# Altium schematic symbol library SYM-IC.SchLib: 136 symbols (part 2 of 7)
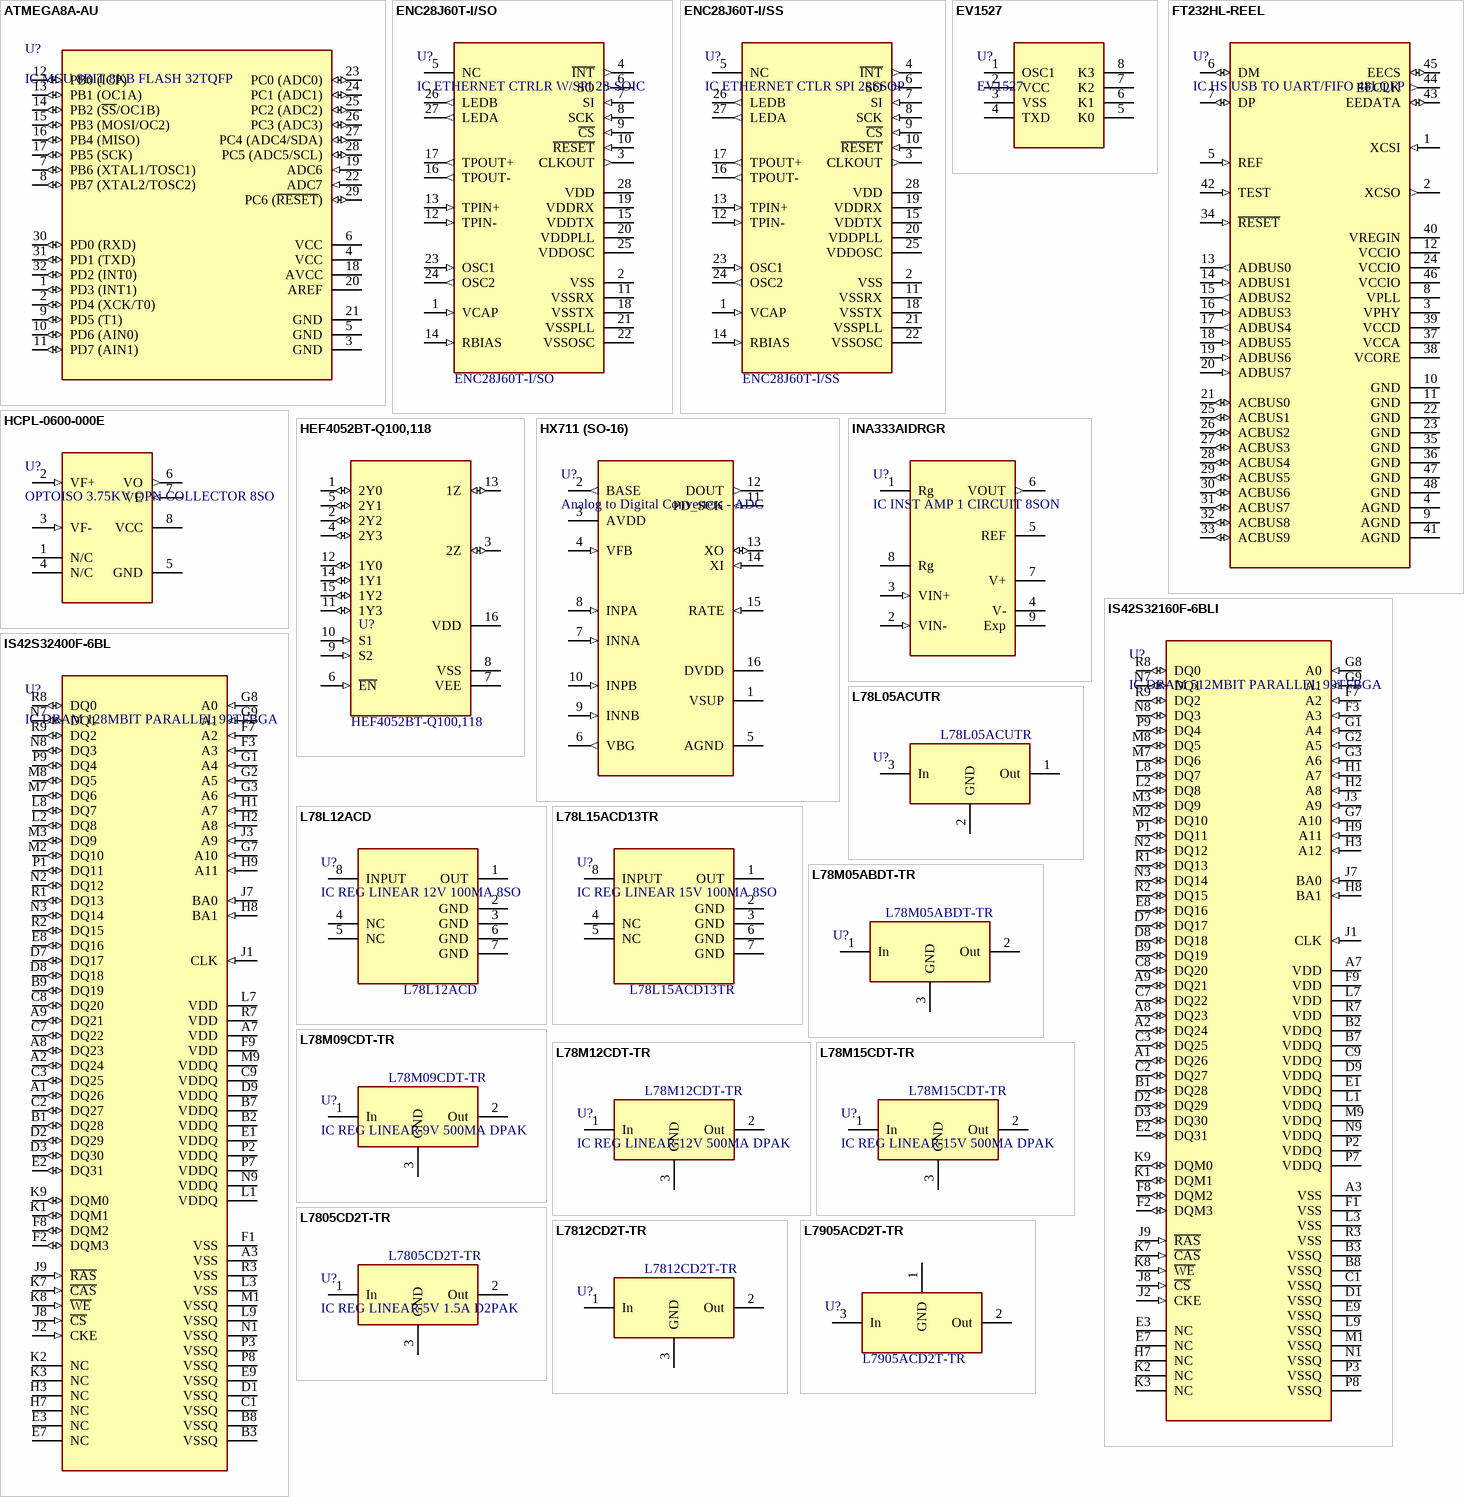
[diagram p18: symbols ATMEGA8A-AU to L7905ACD2T-TR]

## IS42S32400F-6BL
designator U?, comment IC DRAM 128MBIT PARALLEL 90TFBGA
DRAM Chip SDRAM 128M-Bit 4Mx32 3.3V 90-Pin W-BGA (Alt: IS42S32400F-6BL); Manufacturer: ISSI; Access Time: 5.4ns; Max Supply Voltage: 3.6V; Min Supply Voltage: 3V; Address Bus Width: 14b; Nominal Supply Current: 150mA; Density: 128Mb; Data Bus Width: 32b; Memory Type: RAM,SDRAM; Frequency: 166MHz; Supplier 1: Digi-Key; Manufacturer Part Number: IS42S32400F-6BL; RoHS: Yes; Category: RAM; Pricing 1: 240=5/43213 (USD); Mount: Surface Mount; Case/Package: TFBGA; Number of Pins: 90; Min Operating Temperature: 0°C; Max Operating Temperature: 70°C; Packaging: Tray; Package Quantity: 240; Operating Supply Voltage: 3.3V; Memory Size: 128Mb; Interface: Parallel; Max Frequency: 166MHz; Series: -; Organization: 4MX32; Supply Current: 150mA; Radiation Hardening: No; ComponentLink1URL: http://components.arrow.com/part/dataview/51579296S35176N1393?src-supplier=Arrow+Electronics; ComponentLink1Description: http://components.arrow.com/part/dataview/51579296S35176N1393?src-supplier=Arrow+Electronics; ComponentLink2URL: http://www.mouser.com/ds/2/198/42-45S32400F-258273.pdf?src-supplier=Mouser; ComponentLink2Description: http://www.mouser.com/ds/2/198/42-45S32400F-258273.pdf?src-supplier=Mouser; ComponentLink3URL: https://www.verical.com/server-webapp/html/getDatasheet?partID=571356&src-supplier=Verical; ComponentLink3Description: https://www.verical.com/server-webapp/html/getDatasheet?partID=571356&src-supplier=Verical; ComponentLink4URL: http://components.arrow.com/part/dataview/0323_03621789?src-supplier=Arrow+Europe; ComponentLink4Description: http://components.arrow.com/part/dataview/0323_03621789?src-supplier=Arrow+Europe; ComponentLink5URL: http://www.issi.com/WW/pdf/42-45S32400F.pdf?src-supplier=Digi-Key; ComponentLink5Description: http://www.issi.com/WW/pdf/42-45S32400F.pdf?src-supplier=Digi-Key; ComponentLink6URL: http://www.issi.com/pdf/42-45S32400F.pdf?src-supplier=Avnet; ComponentLink6Description: http://www.issi.com/pdf/42-45S32400F.pdf?src-supplier=Avnet; ComponentLink7URL: http://www.issi.com/WW/pdf/42-45S32400F.pdf?src-supplier=Avnet+Europe; ComponentLink7Description: http://www.issi.com/WW/pdf/42-45S32400F.pdf?src-supplier=Avnet+Europe; Supplier Part Number 1: IS42S32400F-6BL-ND
footprint BGA90C80P9X15_800X1300X120 (BGA, 90-Leads, Body 8/00x13/00mmx1/20mm, Pitch 0/80mm)
pins: A1 DQ26 (io), A2 DQ24 (io), A3 VSS (power), A7 VDD (power), A8 DQ23 (io), A9 DQ21 (io), B1 DQ28 (io), B2 VDDQ (power), B3 VSSQ (power), B7 VDDQ (power), B8 VSSQ (power), B9 DQ19 (io), C1 VSSQ (power), C2 DQ27 (io), C3 DQ25 (io), C7 DQ22 (io), C8 DQ20 (io), C9 VDDQ (power), D1 VSSQ (power), D2 DQ29 (io), D3 DQ30 (io), D7 DQ17 (io), D8 DQ18 (io), D9 VDDQ (power), E1 VDDQ (power), E2 DQ31 (io), E3 NC, E7 NC, E8 DQ16 (io), E9 VSSQ (power), F1 VSS (power), F2 DQM3 (io), F3 A3 (in), F7 A2 (in), F8 DQM2 (io), F9 VDD (power), G1 A4 (in), G2 A5 (in), G3 A6 (in), G7 A10 (in), G8 A0 (in), G9 A1 (in), H1 A7 (in), H2 A8 (in), H3 NC, H7 NC, H8 BA1 (in), H9 A11 (in), J1 CLK (in), J2 CKE (in), J3 A9 (in), J7 BA0 (in), J8 ~{CS} (in), J9 ~{RAS} (in), K1 DQM1 (io), K2 NC, K3 NC, K7 ~{CAS} (in), K8 ~{WE} (in), K9 DQM0 (io), L1 VDDQ (power), L2 DQ8 (io), L3 VSS (power), L7 VDD (power), L8 DQ7 (io), L9 VSSQ (power), M1 VSSQ (power), M2 DQ10 (io), M3 DQ9 (io), M7 DQ6 (io), M8 DQ5 (io), M9 VDDQ (power), N1 VSSQ (power), N2 DQ12 (io), N3 DQ14 (io), N7 DQ1 (io), N8 DQ3 (io), N9 VDDQ (power), P1 DQ11 (io), P2 VDDQ (power), P3 VSSQ (power), P7 VDDQ (power), P8 VSSQ (power), P9 DQ4 (io), R1 DQ13 (io), R2 DQ15 (io), R3 VSS (power), R7 VDD (power), R8 DQ0 (io), R9 DQ2 (io)

## L78L05ACUTR
designator U?, comment Manufacturer Part Number: L78L05ACUTR  (hidden comment: IC REG LINEAR 5V 100MA SOT89-3)
L78L Series 100 mA 5 V Three Terminal Positive Voltage LDO Regulator - SOT-89; Manufacturer: STMicroelectronics; Dropout Voltage: 1.7V; Number of Outputs: 1; Max Input Voltage: 30V; Min Input Voltage: 7V; Quiescent Current: 6mA; Accuracy: 4%; Power Supply Rejection Ratio (PSRR): 49dB; Output Type: Fixed; Supplier 1: Digi-Key; RoHS: Yes; Category: Voltage Regulators - Linear; Stock 1: 72440; Pricing 1: 1=0/61000, 10=0/52600, 25=0/49080, 100=0/39270, 250=0/36460, 500=0/30852, 1000=0/23840 (USD); Mount: Surface Mount; Case/Package: SOT-89; Number of Pins: 3; Weight: 0.004603oz; Contact Plating: Tin,Matte; Min Operating Temperature: 0°C; Max Operating Temperature: 125°C; Packaging: Tape and Reel; Package Quantity: 1; Output Current: 100mA; Max Output Current: 100mA; Output Voltage: 5V; Nominal Output Voltage: 5V; Number of Regulators: 1; Polarity: Positive; Min Output Voltage: 5V; Output Voltage Accuracy: 4%; Series: -; Output Configuration: Positive; Max Supply Current: 6mA; Length: 4.6mm; Width: 2.6mm; Height: 1.6mm; Radiation Hardening: No; RoHS Compliant: Yes; Reach SVHC Compliant: Yes; Lead Free: Lead Free; ComponentLink1URL: https://datasheet.ciiva.com/1511/1868798-1511940.pdf?src-supplier=Element14; ComponentLink1Description: https://datasheet.ciiva.com/1511/1868798-1511940.pdf?src-supplier=Element14; ComponentLink2URL: https://datasheet.ciiva.com/22710/1868798-22710940.pdf?src-supplier=Element14; ComponentLink2Description: https://datasheet.ciiva.com/22710/1868798-22710940.pdf?src-supplier=Element14; ComponentLink3URL: https://datasheet.ciiva.com/7992/1868798-7992600.pdf?src-supplier=Element14; ComponentLink3Description: https://datasheet.ciiva.com/7992/1868798-7992600.pdf?src-supplier=Element14; ComponentLink4URL: https://datasheet.ciiva.com/2041/cd00000446-2041791.pdf?src-supplier=Digi-Key; ComponentLink4Description: https://datasheet.ciiva.com/2041/cd00000446-2041791.pdf?src-supplier=Digi-Key; ComponentLink5URL: https://datasheet.ciiva.com/2041/cd00000446-2041790.pdf?src-supplier=Digi-Key; ComponentLink5Description: https://datasheet.ciiva.com/2041/cd00000446-2041790.pdf?src-supplier=Digi-Key; ComponentLink6URL: https://datasheet.ciiva.com/2041/cd00000446-2041792.pdf?src-supplier=Digi-Key; ComponentLink6Description: https://datasheet.ciiva.com/2041/cd00000446-2041792.pdf?src-supplier=Digi-Key; ComponentLink7URL: https://datasheet.ciiva.com/4882/cd00000446-355303-4882429.pdf?src-supplier=Mouser; ComponentLink7Description: https://datasheet.ciiva.com/4882/cd00000446-355303-4882429.pdf?src-supplier=Mouser; ComponentLink8URL: https://datasheet.ciiva.com/16393/cd00000446-16393708.pdf?src-supplier=Future+Electronics; ComponentLink8Description: https://datasheet.ciiva.com/16393/cd00000446-16393708.pdf?src-supplier=Future+Electronics; Supplier Part Number 1: 497-1183-1-ND
footprint SOT89-150P410X160-3N (SOT89, 3-Leads, Body 4/50x2/45mm, Pitch 1/50mm, Lead Span 4/1mm, IPC Medium Density)
pins: 1 Out, 2 GND, 3 In

## L78L12ACD
designator U?, comment IC REG LINEAR 12V 100MA 8SO  Manufacturer Part Number: L78L12ACD
Standard Regulator Pos 12V 0.1A 8-Pin SO N Tube; Manufacturer: STMicroelectronics; Dropout Voltage: 1.7V; Number of Outputs: 1; Max Input Voltage: 35V; Min Input Voltage: 40V; Polarity: Positive; Quiescent Current: 6.5mA; Accuracy: 5%; Output Type: Fixed,Adjustable; Power Supply Rejection Ratio (PSRR): 42dB; Supplier 1: Digi-Key; RoHS: Yes; Category: Voltage Regulators - Linear; Mount: Surface Mount; Case/Package: SO; Number of Pins: 8; Min Operating Temperature: 0°C; Max Operating Temperature: 125°C; Output Current: 100mA; Max Output Current: 100mA; Output Voltage: 12V; Packaging: Rail/Tube; Package Quantity: 100; Nominal Output Voltage: 12V; Number of Regulators: 1; Output Voltage Accuracy: 5%; Voltage: 12V; Min Output Voltage: 12V; Output Configuration: Positive; Series: -; Max Supply Current: 6.5mA; Length: 5mm; Width: 4mm; Height: 1.65mm; Reach SVHC Compliant: Yes; Lead Free: Lead Free; RoHS Compliant: Yes; ComponentLink1URL: https://datasheet.ciiva.com/26330/156064-da-01-en-spannungsregler-l78l12acd-stm-26330860.pdf?src-supplier=Conrad; ComponentLink1Description: https://datasheet.ciiva.com/26330/156064-da-01-en-spannungsregler-l78l12acd-stm-26330860.pdf?src-supplier=Conrad; ComponentLink2URL: https://datasheet.ciiva.com/2060/cd00000446-2060267.pdf?src-supplier=Digi-Key; ComponentLink2Description: https://datasheet.ciiva.com/2060/cd00000446-2060267.pdf?src-supplier=Digi-Key; Supplier Part Number 1: L78L12ACD-ND
footprint SOIC127P600X175-8N (SOIC, 8-Leads, Body 4/89x3/90mm, Pitch 1/27mm, IPC Medium Density)
pins: 1 OUT, 2 GND, 3 GND, 4 NC (power), 5 NC (power), 6 GND (power), 7 GND (power), 8 INPUT (power)

## L78L15ACD13TR
designator U?, comment IC REG LINEAR 15V 100MA 8SO  Manufacturer Part Number: L78L15ACD13TR
L78L Series 100 mA 15 V Positive Voltage LDO Regulator Surface Mount - SOIC-8; Manufacturer: STMicroelectronics; Number of Outputs: 1; Max Input Voltage: 35V; Dropout Voltage: 1.7V; Min Input Voltage: 17V; Quiescent Current: 6.5mA; Accuracy: 4%; Tolerance: 10%; Power Supply Rejection Ratio (PSRR): 39dB; Output Type: Fixed; Supplier 1: Digi-Key; RoHS: Yes; Category: Voltage Regulators - Linear; Stock 1: 1790; Pricing 1: 1=0/52000, 10=0/42400, 25=0/38840, 100=0/28900, 250=0/26188, 500=0/21672, 1000=0/16254 (USD); Mount: Surface Mount; Case/Package: SO; Number of Pins: 8; Min Operating Temperature: 0°C; Max Operating Temperature: 125°C; Output Voltage: 15V; Packaging: Tape and Reel; Output Current: 100mA; Max Output Current: 100mA; Package Quantity: 1; Nominal Output Voltage: 15V; Number of Regulators: 1; Polarity: Positive; Min Output Voltage: 15V; Output Voltage Accuracy: 4%; Series: -; Length: 5mm; Width: 4mm; Height: 1.65mm; Radiation Hardening: No; Reach SVHC Compliant: Yes; Lead Free: Lead Free; RoHS Compliant: Yes; ComponentLink1URL: https://datasheet.ciiva.com/15111/getdatasheetpartid-74309-15111398.pdf?src-supplier=Verical; ComponentLink1Description: https://datasheet.ciiva.com/15111/getdatasheetpartid-74309-15111398.pdf?src-supplier=Verical; ComponentLink2URL: https://datasheet.ciiva.com/2041/cd00000446-2041987.pdf?src-supplier=Digi-Key; ComponentLink2Description: https://datasheet.ciiva.com/2041/cd00000446-2041987.pdf?src-supplier=Digi-Key; ComponentLink3URL: https://datasheet.ciiva.com/2041/cd00000446-2041988.pdf?src-supplier=Digi-Key; ComponentLink3Description: https://datasheet.ciiva.com/2041/cd00000446-2041988.pdf?src-supplier=Digi-Key; ComponentLink4URL: https://datasheet.ciiva.com/2041/cd00000446-2041989.pdf?src-supplier=Digi-Key; ComponentLink4Description: https://datasheet.ciiva.com/2041/cd00000446-2041989.pdf?src-supplier=Digi-Key; ComponentLink5URL: https://datasheet.ciiva.com/3224/cd00000446-3224998.pdf?src-supplier=Avnet; ComponentLink5Description: https://datasheet.ciiva.com/3224/cd00000446-3224998.pdf?src-supplier=Avnet; ComponentLink6URL: https://datasheet.ciiva.com/7992/1868798-7992602.pdf?src-supplier=Element14; ComponentLink6Description: https://datasheet.ciiva.com/7992/1868798-7992602.pdf?src-supplier=Element14; ComponentLink7URL: https://datasheet.ciiva.com/4882/cd00000446-4882427.pdf?src-supplier=Mouser; ComponentLink7Description: https://datasheet.ciiva.com/4882/cd00000446-4882427.pdf?src-supplier=Mouser; ComponentLink8URL: https://datasheet.ciiva.com/16219/cd00000446-16219548.pdf?src-supplier=Future+Electronics; ComponentLink8Description: https://datasheet.ciiva.com/16219/cd00000446-16219548.pdf?src-supplier=Future+Electronics; ComponentLink9URL: https://datasheet.ciiva.com/41440/001185766-da-01-en-ic-reg-ldo-15v-l78l15acd13tr-soic-8-stm-41440651.pdf?src-supplier=Conrad; ComponentLink9Description: https://datasheet.ciiva.com/41440/001185766-da-01-en-ic-reg-ldo-15v-l78l15acd13tr-soic-8-stm-41440651.pdf?src-supplier=Conrad; Supplier Part Number 1: 497-7278-1-ND
footprint SOIC127P600X175-8N (SOIC, 8-Leads, Body 4/89x3/90mm, Pitch 1/27mm, IPC Medium Density)
pins: 1 OUT, 2 GND, 3 GND, 4 NC (power), 5 NC (power), 6 GND (power), 7 GND (power), 8 INPUT (power)

## L78M05ABDT-TR
designator U?, comment Manufacturer Part Number: L78M05ABDT-TR  (hidden comment: IC REG LINEAR 5V 500MA DPAK)
Linear Voltage Regulator IC Positive Fixed 1 Output 5V 500mA D-Pak; Manufacturer: STMicroelectronics; Dropout Voltage: 2V; Number of Outputs: 1; Max Input Voltage: 35V; Min Input Voltage: 10V; Quiescent Current: 6mA; Output Voltage Accuracy: 2%; Tolerance: 4%; Power Supply Rejection Ratio (PSRR): 62dB; Supplier 1: Digi-Key; RoHS: Yes; Category: Voltage Regulators - Linear; Pricing 1: 1=0/78000, 10=0/68600, 25=0/64440, 100=0/52590, 250=0/48848, 500=0/41574, 1000=0/34318 (USD); Mount: Surface Mount; Case/Package: TO-252; Number of Pins: 3; Weight: 0.01lb; Contact Plating: Tin,Matte; Min Operating Temperature: -40°C; Max Operating Temperature: 125°C; Packaging: Tape and Reel; Output Current: 500mA; Max Output Current: 500mA; Output Voltage: 5V; Package Quantity: 1; Nominal Output Voltage: 5V; Number of Regulators: 1; Polarity: Positive; Min Output Voltage: 5V; Accuracy: 2%; Output Type: Fixed; Series: -; Length: 6.6mm; Width: 6.2mm; Height: 2.4mm; Radiation Hardening: No; RoHS Compliant: Yes; REACH SVHC: No SVHC; Lead Free: Lead Free; ComponentLink1URL: https://datasheet.ciiva.com/14111/tal78mxxax-data-e-14111355.pdf?src-supplier=Distrelec; ComponentLink1Description: https://datasheet.ciiva.com/14111/tal78mxxax-data-e-14111355.pdf?src-supplier=Distrelec; ComponentLink2URL: https://datasheet.ciiva.com/34303/2026925-34303932.pdf?src-supplier=Jameco; ComponentLink2Description: https://datasheet.ciiva.com/34303/2026925-34303932.pdf?src-supplier=Jameco; ComponentLink3URL: https://datasheet.ciiva.com/15111/getdatasheetpartid-82879-15111488.pdf?src-supplier=Verical; ComponentLink3Description: https://datasheet.ciiva.com/15111/getdatasheetpartid-82879-15111488.pdf?src-supplier=Verical; ComponentLink4URL: https://datasheet.ciiva.com/41694/1834365-41694550.pdf?src-supplier=Newark; ComponentLink4Description: https://datasheet.ciiva.com/41694/1834365-41694550.pdf?src-supplier=Newark; ComponentLink5URL: https://datasheet.ciiva.com/1511/1834365-1511962.pdf?src-supplier=Element14; ComponentLink5Description: https://datasheet.ciiva.com/1511/1834365-1511962.pdf?src-supplier=Element14; ComponentLink6URL: https://datasheet.ciiva.com/7992/1834365-7992607.pdf?src-supplier=Element14; ComponentLink6Description: https://datasheet.ciiva.com/7992/1834365-7992607.pdf?src-supplier=Element14; ComponentLink7URL: https://datasheet.ciiva.com/2042/cd00000448-2042562.pdf?src-supplier=Digi-Key; ComponentLink7Description: https://datasheet.ciiva.com/2042/cd00000448-2042562.pdf?src-supplier=Digi-Key; ComponentLink8URL: https://datasheet.ciiva.com/2042/cd00000448-2042561.pdf?src-supplier=Digi-Key; ComponentLink8Description: https://datasheet.ciiva.com/2042/cd00000448-2042561.pdf?src-supplier=Digi-Key; ComponentLink9URL: https://datasheet.ciiva.com/2042/cd00000448-2042563.pdf?src-supplier=Digi-Key; ComponentLink9Description: https://datasheet.ciiva.com/2042/cd00000448-2042563.pdf?src-supplier=Digi-Key; ComponentLink10URL: https://datasheet.ciiva.com/4881/cd00000447-4881867.pdf?src-supplier=Mouser; ComponentLink10Description: https://datasheet.ciiva.com/4881/cd00000447-4881867.pdf?src-supplier=Mouser; ComponentLink11URL: https://datasheet.ciiva.com/16386/cd00000448-16386332.pdf?src-supplier=Future+Electronics; ComponentLink11Description: https://datasheet.ciiva.com/16386/cd00000448-16386332.pdf?src-supplier=Future+Electronics; Supplier Part Number 1: 497-1201-1-ND
footprint DPAK228P1010X238-3N (D-PAK, 3-Pads, Body 6/20x6/72mm (max), IPC Medium Density)
pins: 1 In, 2 Out, 3 GND

## L78M09CDT-TR
designator U?, comment IC REG LINEAR 9V 500MA DPAK  Manufacturer Part Number: L78M09CDT-TR
IC REG LDO 9V 0.5A DPAK; Manufacturer: STMicroelectronics; Dropout Voltage: 2V; Max Input Voltage: 35V; Number of Outputs: 1; Polarity: Positive; Quiescent Current: 6mA; Output Type: Fixed; Supplier 1: Digi-Key; RoHS: Yes; Category: Voltage Regulators - Linear; Stock 1: 1880; Pricing 1: 1=0/71000, 10=0/62900, 25=0/59040, 100=0/48190, 250=0/44764, 500=0/38096, 1000=0/31448 (USD); Mount: Surface Mount; Case/Package: TO-252; Number of Pins: 3; Min Operating Temperature: 0°C; Max Operating Temperature: 150°C; Packaging: Tape and Reel; Package Quantity: 1; Series: -; Output Current: 500mA; Output Voltage: 9V; Max Output Current: 500mA; Min Input Voltage: 35V; Number of Regulators: 1; Nominal Output Voltage: 9V; Min Output Voltage: 9V; Length: 6.6mm; Width: 6.2mm; Height: 2.4mm; Radiation Hardening: No; RoHS Compliant: Yes; Lead Free: Lead Free; Reach SVHC Compliant: Yes; ComponentLink1URL: https://datasheet.ciiva.com/15111/getdatasheetpartid-82881-15111490.pdf?src-supplier=Verical; ComponentLink1Description: https://datasheet.ciiva.com/15111/getdatasheetpartid-82881-15111490.pdf?src-supplier=Verical; ComponentLink2URL: https://datasheet.ciiva.com/2042/cd00000447-2042048.pdf?src-supplier=Digi-Key; ComponentLink2Description: https://datasheet.ciiva.com/2042/cd00000447-2042048.pdf?src-supplier=Digi-Key; ComponentLink3URL: https://datasheet.ciiva.com/2042/cd00000447-2042047.pdf?src-supplier=Digi-Key; ComponentLink3Description: https://datasheet.ciiva.com/2042/cd00000447-2042047.pdf?src-supplier=Digi-Key; ComponentLink4URL: https://datasheet.ciiva.com/2042/cd00000447-2042049.pdf?src-supplier=Digi-Key; ComponentLink4Description: https://datasheet.ciiva.com/2042/cd00000447-2042049.pdf?src-supplier=Digi-Key; ComponentLink5URL: https://datasheet.ciiva.com/4882/cd00000447-4882987.pdf?src-supplier=Mouser; ComponentLink5Description: https://datasheet.ciiva.com/4882/cd00000447-4882987.pdf?src-supplier=Mouser; ComponentLink6URL: https://datasheet.ciiva.com/16219/cd00000447-16219549.pdf?src-supplier=Future+Electronics; ComponentLink6Description: https://datasheet.ciiva.com/16219/cd00000447-16219549.pdf?src-supplier=Future+Electronics; Supplier Part Number 1: 497-1208-1-ND
footprint DPAK228P1010X238-3N (D-PAK, 3-Pads, Body 6/20x6/72mm (max), IPC Medium Density)
pins: 1 In, 2 Out, 3 GND

## L78M12CDT-TR
designator U?, comment IC REG LINEAR 12V 500MA DPAK  Manufacturer Part Number: L78M12CDT-TR
Linear Voltage Regulator IC Positive Fixed 1 Output 12V 500mA D-Pak; Manufacturer: STMicroelectronics; Number of Outputs: 1; Max Input Voltage: 35V; Dropout Voltage: 2V; Min Input Voltage: 14V; Quiescent Current: 6mA; Power Supply Rejection Ratio (PSRR): 55dB; Supplier 1: Digi-Key; RoHS: Yes; Category: Voltage Regulators - Linear; Stock 1: 1734; Pricing 1: 1=0/71000, 10=0/62900, 25=0/59040, 100=0/48190, 250=0/44764, 500=0/38096, 1000=0/31448 (USD); Mount: Surface Mount; Case/Package: TO-252; Number of Pins: 3; Weight: 0.01lb; Contact Plating: Tin,Matte; Min Operating Temperature: 0°C; Max Operating Temperature: 150°C; Packaging: Tape and Reel; Package Quantity: 1; Series: -; Output Voltage: 12V; Output Current: 500mA; Max Output Current: 500mA; Nominal Output Voltage: 12V; Number of Regulators: 1; Polarity: Positive; Min Output Voltage: 12V; Output Type: Fixed; Length: 6.6mm; Width: 6.2mm; Height: 2.4mm; Radiation Hardening: No; RoHS Compliant: Yes; Reach SVHC Compliant: Yes; Lead Free: Lead Free; ComponentLink1URL: https://datasheet.ciiva.com/15111/getdatasheetpartid-50670-15111130.pdf?src-supplier=Verical; ComponentLink1Description: https://datasheet.ciiva.com/15111/getdatasheetpartid-50670-15111130.pdf?src-supplier=Verical; ComponentLink2URL: https://datasheet.ciiva.com/1512/1834365-1512351.pdf?src-supplier=Element14; ComponentLink2Description: https://datasheet.ciiva.com/1512/1834365-1512351.pdf?src-supplier=Element14; ComponentLink3URL: https://datasheet.ciiva.com/7992/1834365-7992614.pdf?src-supplier=Element14; ComponentLink3Description: https://datasheet.ciiva.com/7992/1834365-7992614.pdf?src-supplier=Element14; ComponentLink4URL: https://datasheet.ciiva.com/2042/cd00000447-2042072.pdf?src-supplier=Digi-Key; ComponentLink4Description: https://datasheet.ciiva.com/2042/cd00000447-2042072.pdf?src-supplier=Digi-Key; ComponentLink5URL: https://datasheet.ciiva.com/2042/cd00000447-2042071.pdf?src-supplier=Digi-Key; ComponentLink5Description: https://datasheet.ciiva.com/2042/cd00000447-2042071.pdf?src-supplier=Digi-Key; ComponentLink6URL: https://datasheet.ciiva.com/2042/cd00000447-2042073.pdf?src-supplier=Digi-Key; ComponentLink6Description: https://datasheet.ciiva.com/2042/cd00000447-2042073.pdf?src-supplier=Digi-Key; ComponentLink7URL: https://datasheet.ciiva.com/4882/cd00000447-4882570.pdf?src-supplier=Mouser; ComponentLink7Description: https://datasheet.ciiva.com/4882/cd00000447-4882570.pdf?src-supplier=Mouser; ComponentLink8URL: https://datasheet.ciiva.com/16365/cd00000447-16365814.pdf?src-supplier=Future+Electronics; ComponentLink8Description: https://datasheet.ciiva.com/16365/cd00000447-16365814.pdf?src-supplier=Future+Electronics; ComponentLink9URL: https://datasheet.ciiva.com/41439/001184668-da-01-en-ic-reg-ldo-12v-l78m12cdt-tr-to-252-3-stm-41439799.pdf?src-supplier=Conrad; ComponentLink9Description: https://datasheet.ciiva.com/41439/001184668-da-01-en-ic-reg-ldo-12v-l78m12cdt-tr-to-252-3-stm-41439799.pdf?src-supplier=Conrad; Supplier Part Number 1: 497-1211-1-ND
footprint DPAK228P1010X238-3N (D-PAK, 3-Pads, Body 6/20x6/72mm (max), IPC Medium Density)
pins: 1 In, 2 Out, 3 GND

## L78M15CDT-TR
designator U?, comment IC REG LINEAR 15V 500MA DPAK  Manufacturer Part Number: L78M15CDT-TR
IC REG LDO 15V 0.5A DPAK; Manufacturer: STMicroelectronics; Max Input Voltage: 35V; Min Input Voltage: 17V; Number of Outputs: 1; Dropout Voltage: 2V; Polarity: Positive; Quiescent Current: 6mA; Power Supply Rejection Ratio (PSRR): 54dB; Output Type: Fixed; Supplier 1: Digi-Key; RoHS: Yes; Category: Voltage Regulators - Linear; Stock 1: 4055; Pricing 1: 1=0/71000, 10=0/62900, 25=0/59040, 100=0/48190, 250=0/44764, 500=0/38096, 1000=0/31448 (USD); Mount: Surface Mount; Case/Package: TO-252; Number of Pins: 3; Weight: 0.063493oz; Contact Plating: Tin,Matte; Min Operating Temperature: 0°C; Max Operating Temperature: 150°C; Packaging: Tape and Reel; Output Voltage: 15V; Output Current: 500mA; Package Quantity: 1; Max Output Current: 500mA; Nominal Output Voltage: 15V; Number of Regulators: 1; Min Output Voltage: 15V; Series: -; Output Configuration: Positive; Length: 6.6mm; Width: 6.2mm; Height: 2.4mm; Radiation Hardening: No; RoHS Compliant: Yes; Reach SVHC Compliant: Yes; Lead Free: Lead Free; ComponentLink1URL: https://datasheet.ciiva.com/16219/cd00000447-16219552.pdf?src-supplier=Future+Electronics; ComponentLink1Description: https://datasheet.ciiva.com/16219/cd00000447-16219552.pdf?src-supplier=Future+Electronics; ComponentLink2URL: https://datasheet.ciiva.com/1512/1834365-1512352.pdf?src-supplier=Element14; ComponentLink2Description: https://datasheet.ciiva.com/1512/1834365-1512352.pdf?src-supplier=Element14; ComponentLink3URL: https://datasheet.ciiva.com/2042/cd00000447-2042448.pdf?src-supplier=Digi-Key; ComponentLink3Description: https://datasheet.ciiva.com/2042/cd00000447-2042448.pdf?src-supplier=Digi-Key; ComponentLink4URL: https://datasheet.ciiva.com/2042/cd00000447-2042447.pdf?src-supplier=Digi-Key; ComponentLink4Description: https://datasheet.ciiva.com/2042/cd00000447-2042447.pdf?src-supplier=Digi-Key; ComponentLink5URL: https://datasheet.ciiva.com/2042/cd00000447-2042449.pdf?src-supplier=Digi-Key; ComponentLink5Description: https://datasheet.ciiva.com/2042/cd00000447-2042449.pdf?src-supplier=Digi-Key; ComponentLink6URL: https://datasheet.ciiva.com/3225/cd00000447-3225029.pdf?src-supplier=Avnet; ComponentLink6Description: https://datasheet.ciiva.com/3225/cd00000447-3225029.pdf?src-supplier=Avnet; Supplier Part Number 1: 497-1212-1-ND
footprint DPAK228P1010X238-3N (D-PAK, 3-Pads, Body 6/20x6/72mm (max), IPC Medium Density)
pins: 1 In, 2 Out, 3 GND

## L7805CD2T-TR
designator U?, comment IC REG LINEAR 5V 1.5A D2PAK  Manufacturer Part Number: L7805CD2T-TR
IC REG LDO 5V 1.5A D2PAK; Manufacturer: STMicroelectronics; Max Input Voltage: 35V; Min Input Voltage: 10V; Number of Outputs: 1; Dropout Voltage: 2V; Polarity: Positive; Quiescent Current: 8mA; Min Output Voltage: 4.8V; Power Supply Rejection Ratio (PSRR): 62dB; Output Type: Fixed; Supplier 1: Digi-Key; RoHS: Yes; Category: Voltage Regulators - Linear; Stock 1: 44550; Pricing 1: 1=1/02000, 10=0/91300, 25=0/86640, 100=0/71180, 250=0/66540, 500=0/58802 (USD); Mount: Surface Mount; Case/Package: TO-263; Number of Pins: 3; Weight: 7.1E-05oz; Contact Plating: Tin,Matte; Min Operating Temperature: 0°C; Max Operating Temperature: 125°C; Packaging: Tape and Reel; Output Voltage: 5V; Output Current: 1.5A; Package Quantity: 1000; Max Output Current: 1.5A; Nominal Output Voltage: 5V; Number of Regulators: 1; Series: -; Length: 10.4mm; Width: 9.35mm; Height: 4.6mm; Radiation Hardening: No; RoHS Compliant: Yes; Reach SVHC Compliant: Yes; Lead Free: Lead Free; ComponentLink1URL: https://datasheet.ciiva.com/36526/1991686-36526238.pdf?src-supplier=Jameco; ComponentLink1Description: https://datasheet.ciiva.com/36526/1991686-36526238.pdf?src-supplier=Jameco; ComponentLink2URL: https://datasheet.ciiva.com/46618/1805459-46618855.pdf?src-supplier=Newark; ComponentLink2Description: https://datasheet.ciiva.com/46618/1805459-46618855.pdf?src-supplier=Newark; ComponentLink3URL: https://datasheet.ciiva.com/1511/1805459-1511910.pdf?src-supplier=Element14; ComponentLink3Description: https://datasheet.ciiva.com/1511/1805459-1511910.pdf?src-supplier=Element14; ComponentLink4URL: https://datasheet.ciiva.com/22710/1805459-22710937.pdf?src-supplier=Element14; ComponentLink4Description: https://datasheet.ciiva.com/22710/1805459-22710937.pdf?src-supplier=Element14; ComponentLink5URL: https://datasheet.ciiva.com/7647/1805459-7647813.pdf?src-supplier=Element14; ComponentLink5Description: https://datasheet.ciiva.com/7647/1805459-7647813.pdf?src-supplier=Element14; ComponentLink6URL: https://datasheet.ciiva.com/2053/cd00000444-2053731.pdf?src-supplier=Digi-Key; ComponentLink6Description: https://datasheet.ciiva.com/2053/cd00000444-2053731.pdf?src-supplier=Digi-Key; ComponentLink7URL: https://datasheet.ciiva.com/2053/cd00000444-2053730.pdf?src-supplier=Digi-Key; ComponentLink7Description: https://datasheet.ciiva.com/2053/cd00000444-2053730.pdf?src-supplier=Digi-Key; ComponentLink8URL: https://datasheet.ciiva.com/2053/cd00000444-2053732.pdf?src-supplier=Digi-Key; ComponentLink8Description: https://datasheet.ciiva.com/2053/cd00000444-2053732.pdf?src-supplier=Digi-Key; ComponentLink9URL: https://datasheet.ciiva.com/4881/cd00000444-4881992.pdf?src-supplier=Mouser; ComponentLink9Description: https://datasheet.ciiva.com/4881/cd00000444-4881992.pdf?src-supplier=Mouser; ComponentLink10URL: https://datasheet.ciiva.com/16385/cd00000444-16385288.pdf?src-supplier=Future+Electronics; ComponentLink10Description: https://datasheet.ciiva.com/16385/cd00000444-16385288.pdf?src-supplier=Future+Electronics; Supplier Part Number 1: 497-1171-1-ND
footprint DPAK170P1438X470-3N (D2-PAK, 3-Pads, Body 7/45x8/51mm (max), IPC Medium Density)
pins: 1 In, 2 Out, 3 GND

## L7812CD2T-TR
designator U?, comment Manufacturer Part Number: L7812CD2T-TR  (hidden comment: IC REG LINEAR 12V 1.5A D2PAK)
Linear Voltage Regulator IC Positive Fixed 1 Output 12V 1.5A D2PAK; Manufacturer: STMicroelectronics; Number of Outputs: 1; Max Input Voltage: 35V; Min Input Voltage: 14V; Dropout Voltage: 2V; Quiescent Current: 8mA; Power Supply Rejection Ratio (PSRR): 55dB; Supplier 1: Digi-Key; RoHS: Yes; Category: Voltage Regulators - Linear; Mount: Surface Mount; Case/Package: TO-263; Number of Pins: 3; Weight: 0.01lb; Contact Plating: Tin,Matte; Min Operating Temperature: 0°C; Max Operating Temperature: 125°C; Packaging: Tape and Reel; Output Current: 1.5A; Max Output Current: 1.5A; Output Voltage: 12V; Package Quantity: 1; Nominal Output Voltage: 12V; Polarity: Positive; Number of Regulators: 1; Min Output Voltage: 12V; Max Output Voltage: 12V; Output Type: Fixed; Series: -; Length: 10.4mm; Width: 9.35mm; Height: 4.6mm; Radiation Hardening: No; RoHS Compliant: Yes; Reach SVHC Compliant: Yes; Lead Free: Lead Free; ComponentLink1URL: https://datasheet.ciiva.com/34303/2027434-34303936.pdf?src-supplier=Jameco; ComponentLink1Description: https://datasheet.ciiva.com/34303/2027434-34303936.pdf?src-supplier=Jameco; ComponentLink2URL: https://datasheet.ciiva.com/5697/1696820-5697199.pdf?src-supplier=Farnell; ComponentLink2Description: https://datasheet.ciiva.com/5697/1696820-5697199.pdf?src-supplier=Farnell; ComponentLink3URL: https://datasheet.ciiva.com/1511/1805459-1511925.pdf?src-supplier=Element14; ComponentLink3Description: https://datasheet.ciiva.com/1511/1805459-1511925.pdf?src-supplier=Element14; ComponentLink4URL: https://datasheet.ciiva.com/7992/1805459-7992588.pdf?src-supplier=Element14; ComponentLink4Description: https://datasheet.ciiva.com/7992/1805459-7992588.pdf?src-supplier=Element14; ComponentLink5URL: https://datasheet.ciiva.com/2042/cd00000444-2042893.pdf?src-supplier=Digi-Key; ComponentLink5Description: https://datasheet.ciiva.com/2042/cd00000444-2042893.pdf?src-supplier=Digi-Key; ComponentLink6URL: https://datasheet.ciiva.com/2042/cd00000444-2042892.pdf?src-supplier=Digi-Key; ComponentLink6Description: https://datasheet.ciiva.com/2042/cd00000444-2042892.pdf?src-supplier=Digi-Key; ComponentLink7URL: https://datasheet.ciiva.com/2042/cd00000444-2042894.pdf?src-supplier=Digi-Key; ComponentLink7Description: https://datasheet.ciiva.com/2042/cd00000444-2042894.pdf?src-supplier=Digi-Key; Supplier Part Number 1: 497-1178-1-ND
footprint DPAK170P1438X470-3N (D2-PAK, 3-Pads, Body 7/45x8/51mm (max), IPC Medium Density)
pins: 1 In, 2 Out, 3 GND

## L7905ACD2T-TR
designator U?, comment Manufacturer Part Number: L7905ACD2T-TR  (hidden comment: IC REG LINEAR -5V 1.5A D2PAK)
L7905 Series 1.5 A -5 V Fixed Output Negative Voltage Regulator - D2PAK; Manufacturer: STMicroelectronics; Max Input Voltage: -35V; Number of Outputs: 1; Dropout Voltage: 1.4V; Min Input Voltage: -7V; Quiescent Current: 3mA; Accuracy: 2%; Power Supply Rejection Ratio (PSRR): 60dB; Supplier 1: Digi-Key; RoHS: Yes; Category: Voltage Regulators - Linear; Stock 1: 3675; Pricing 1: 1=1/11000, 10=0/99500, 25=0/94400, 100=0/77550, 250=0/72496, 500=0/64066 (USD); Mount: Surface Mount; Case/Package: TO-263; Number of Pins: 3; Min Operating Temperature: 0°C; Max Operating Temperature: 125°C; Max Output Current: 1.5A; Output Voltage: -5V; Packaging: Tape and Reel; Output Current: 1.5A; Package Quantity: 1; Number of Regulators: 1; Polarity: Negative; Min Output Voltage: -5V; Output Voltage Accuracy: 2%; Output Type: Fixed; Series: -; Length: 10.4mm; Width: 9.35mm; Height: 4.6mm; Radiation Hardening: No; Lead Free: Lead Free; RoHS Compliant: Yes; ComponentLink1URL: https://datasheet.ciiva.com/17091/l7905acd2t-tr-17091710.pdf?src-supplier=Allied+Electronics; ComponentLink1Description: https://datasheet.ciiva.com/17091/l7905acd2t-tr-17091710.pdf?src-supplier=Allied+Electronics; ComponentLink2URL: https://datasheet.ciiva.com/2049/cd00000451-2049607.pdf?src-supplier=Digi-Key; ComponentLink2Description: https://datasheet.ciiva.com/2049/cd00000451-2049607.pdf?src-supplier=Digi-Key; ComponentLink3URL: https://datasheet.ciiva.com/2049/cd00000451-2049608.pdf?src-supplier=Digi-Key; ComponentLink3Description: https://datasheet.ciiva.com/2049/cd00000451-2049608.pdf?src-supplier=Digi-Key; ComponentLink4URL: https://datasheet.ciiva.com/2049/cd00000451-2049609.pdf?src-supplier=Digi-Key; ComponentLink4Description: https://datasheet.ciiva.com/2049/cd00000451-2049609.pdf?src-supplier=Digi-Key; ComponentLink5URL: https://datasheet.ciiva.com/8229/cd00000450-8229482.pdf?src-supplier=Avnet; ComponentLink5Description: https://datasheet.ciiva.com/8229/cd00000450-8229482.pdf?src-supplier=Avnet; ComponentLink6URL: https://datasheet.ciiva.com/4882/cd00000450-4882667.pdf?src-supplier=Mouser; ComponentLink6Description: https://datasheet.ciiva.com/4882/cd00000450-4882667.pdf?src-supplier=Mouser; ComponentLink7URL: https://datasheet.ciiva.com/41440/001185778-da-01-en-ic-reg-ldo-5-l7905acd2t-tr-to-263-3-stm-41440694.pdf?src-supplier=Conrad; ComponentLink7Description: https://datasheet.ciiva.com/41440/001185778-da-01-en-ic-reg-ldo-5-l7905acd2t-tr-to-263-3-stm-41440694.pdf?src-supplier=Conrad; Supplier Part Number 1: 497-7292-1-ND
footprint DPAK228P1010X238-3N (D-PAK, 3-Pads, Body 6/20x6/72mm (max), IPC Medium Density)
pins: 1 GND, 2 Out, 3 In

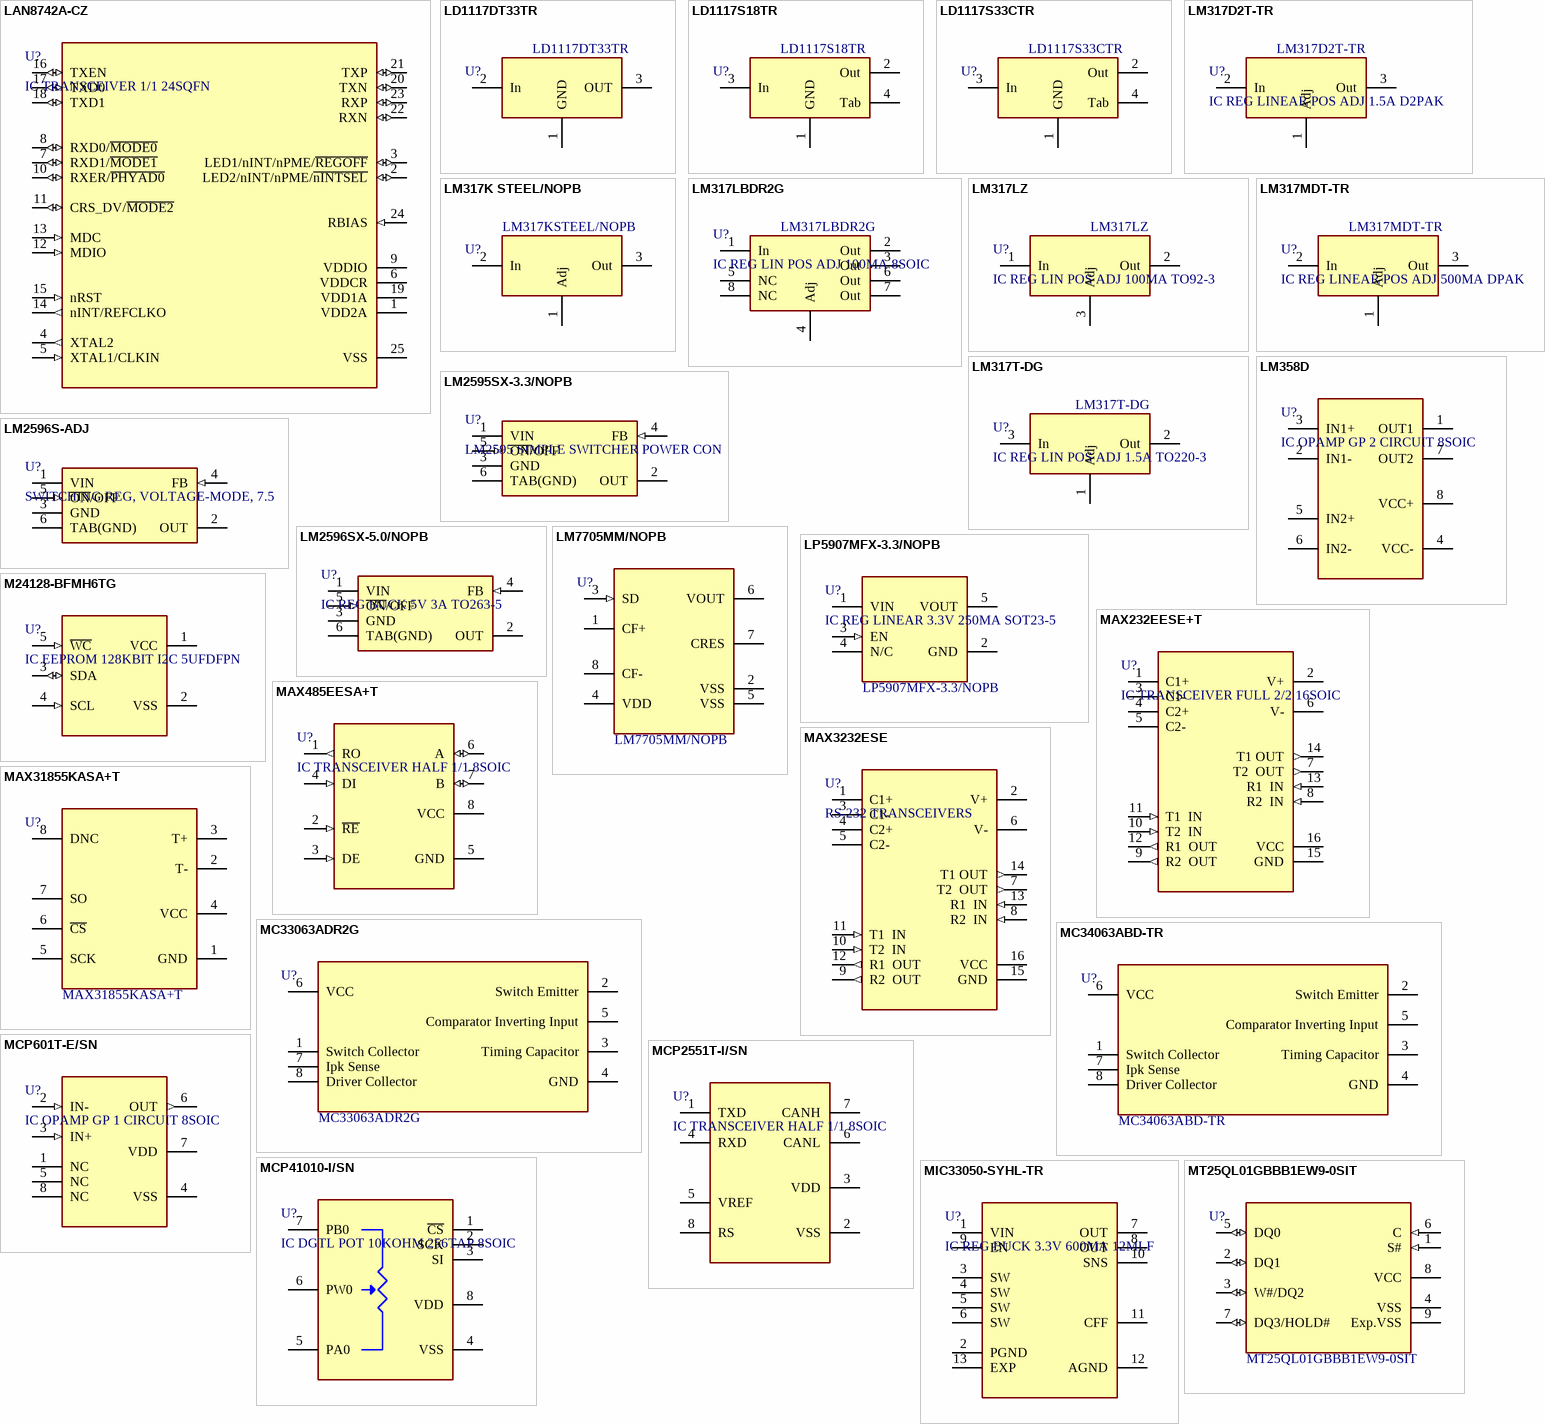
[diagram p2: symbols LAN8742A-CZ to MT25QL01GBBB1EW9-0SIT]

## LAN8742A-CZ
designator U?, comment IC TRANSCEIVER 1/1 24SQFN
Small Footprint RMII 10/100 Ethernet Transceiver with flexPWR Technology; Manufacturer: Microchip; Manufacturer Part Number: LAN8742A-CZ; Data Rate: 100Mbps; Min Supply Voltage: 1.62V; Max Supply Voltage: 3.6V; Number of Transceivers: 1; Supplier 1: Digi-Key; RoHS: Yes; Category: Ethernet Interface ICs; Pricing 1: 1=1/47000, 25=1/22960, 100=1/18500 (USD); Mount: Surface Mount; Case/Package: QFN; Number of Pins: 24; Min Operating Temperature: 0°C; Max Operating Temperature: 85°C; Packaging: Tray; Package Quantity: 490; Length: 4.1mm; Width: 4.1mm; Height: 0.95mm; Radiation Hardening: No; REACH SVHC: No SVHC; RoHS Compliant: Yes; ComponentLink1URL: https://datasheet.ciiva.com/28472/1776727-28472380.pdf?src-supplier=Element14; ComponentLink1Description: https://datasheet.ciiva.com/28472/1776727-28472380.pdf?src-supplier=Element14; ComponentLink2URL: https://datasheet.ciiva.com/29882/8742a-29882613.pdf?src-supplier=Avnet; ComponentLink2Description: https://datasheet.ciiva.com/29882/8742a-29882613.pdf?src-supplier=Avnet; Supplier Part Number 1: LAN8742A-CZ-ND
footprint QFN50P400X400X50_HS-25N (QFN, 24-Leads, Body 4/00x4/00mm, Pitch 0/50mm, Thermal Pad 2/50x2/50mm, IPC Medium Density)
pins: 1 VDD2A (power), 2 LED2/nINT/nPME/~{nINTSEL} (io), 3 LED1/nINT/nPME/~{REGOFF} (io), 4 XTAL2 (out), 5 XTAL1/CLKIN (in), 6 VDDCR (power), 7 RXD1/~{MODE1} (io), 8 RXD0/~{MODE0} (io), 9 VDDIO (power), 10 RXER/~{PHYAD0} (io), 11 CRS_DV/~{MODE2} (io), 12 MDIO (in), 13 MDC (in), 14 nINT/REFCLKO (out), 15 nRST (in), 16 TXEN (io), 17 TXD0 (io), 18 TXD1 (io), 19 VDD1A (power), 20 TXN (io), 21 TXP (io), 22 RXN (io), 23 RXP (io), 24 RBIAS (in), 25 VSS (power)

## LD1117DT33TR
designator U?, comment Manufacturer Part Number: LD1117DT33TR  (hidden comment: IC REG LINEAR 3.3V 800MA DPAK)
IC REG LDO 3.3V 0.8A DPAK / LDO Regulator Pos 3.3V 1.3A 3-Pin(2+Tab) DPAK T/R; Manufacturer: STMicroelectronics; Max Power Dissipation: 12W; Polarity: Positive; Dropout Voltage: 1.1V; Max Input Voltage: 15V; Nominal Supply Current: 5mA; Number of Outputs: 1; Quiescent Current: 10mA; Accuracy: 1%; Output Type: Fixed; Power Supply Rejection Ratio (PSRR): 75dB; Supplier 1: Digi-Key; RoHS: Yes; Category: Voltage Regulators - Linear; Stock 1: 34637; Pricing 1: 1=0/94000, 10=0/82400, 25=0/77440, 100=0/63210, 250=0/58712, 500=0/49968, 1000=0/41248 (USD); Mount: Surface Mount; Case/Package: TO-252; Number of Pins: 3; Weight: 0.01lb; Contact Plating: Tin,Matte; Min Operating Temperature: 0°C; Max Operating Temperature: 125°C; Packaging: Tape and Reel; Package Quantity: 2500; Power Dissipation: 12W; Series: -; Output Current: 800mA; Output Voltage: 3.3V; Max Output Current: 1.3A; Nominal Output Voltage: 3.3V; Number of Regulators: 1; Input Bias Current: 5mA; Output Voltage Accuracy: 1%; Power Rating: 12W; Tolerance: 1%; Supply Current: 5mA; Output Configuration: Positive; Length: 6.6mm; Width: 6.2mm; Height: 2.4mm; Radiation Hardening: No; RoHS Compliant: Yes; Reach SVHC Compliant: Yes; Lead Free: Lead Free; ComponentLink1URL: https://datasheet.ciiva.com/14149/ld1117-eng-tds-14149938.pdf?src-supplier=Distrelec; ComponentLink1Description: https://datasheet.ciiva.com/14149/ld1117-eng-tds-14149938.pdf?src-supplier=Distrelec; ComponentLink2URL: https://datasheet.ciiva.com/39121/1991846-39121638.pdf?src-supplier=Jameco; ComponentLink2Description: https://datasheet.ciiva.com/39121/1991846-39121638.pdf?src-supplier=Jameco; ComponentLink3URL: https://datasheet.ciiva.com/2042/cd00000544-2042056.pdf?src-supplier=Digi-Key; ComponentLink3Description: https://datasheet.ciiva.com/2042/cd00000544-2042056.pdf?src-supplier=Digi-Key; ComponentLink4URL: https://datasheet.ciiva.com/2042/cd00000544-2042057.pdf?src-supplier=Digi-Key; ComponentLink4Description: https://datasheet.ciiva.com/2042/cd00000544-2042057.pdf?src-supplier=Digi-Key; ComponentLink5URL: https://datasheet.ciiva.com/7992/1776449-7992617.pdf?src-supplier=Element14; ComponentLink5Description: https://datasheet.ciiva.com/7992/1776449-7992617.pdf?src-supplier=Element14; ComponentLink6URL: https://datasheet.ciiva.com/2042/cd00000544-2042058.pdf?src-supplier=Digi-Key; ComponentLink6Description: https://datasheet.ciiva.com/2042/cd00000544-2042058.pdf?src-supplier=Digi-Key; ComponentLink7URL: https://datasheet.ciiva.com/16199/cd00000544-16199549.pdf?src-supplier=Future+Electronics; ComponentLink7Description: https://datasheet.ciiva.com/16199/cd00000544-16199549.pdf?src-supplier=Future+Electronics; ComponentLink8URL: https://datasheet.ciiva.com/7993/1776449-7993326.pdf?src-supplier=Element14; ComponentLink8Description: https://datasheet.ciiva.com/7993/1776449-7993326.pdf?src-supplier=Element14; Supplier Part Number 1: 497-1236-1-ND
footprint DPAK228P1010X238-3N (D-PAK, 3-Pads, Body 6/20x6/72mm (max), IPC Medium Density)
pins: 1 GND, 2 In, 3 OUT

## LD1117S18TR
designator U?, comment Manufacturer Part Number: LD1117S18TR  (hidden comment: IC REG LINEAR 1.8V 800MA SOT223)
LDO Regulator Pos 1.8V 1.3A 4-Pin(3+Tab) SOT-223 T/R - Tape and Reel (Alt: LD1117S18TR); Manufacturer: STMicroelectronics; Max Power Dissipation: 12W; Number of Outputs: 1; Max Input Voltage: 15V; Output Current: 950mA; Dropout Voltage: 1.1V; Input Bias Current: 5mA; Quiescent Current: 10mA; Polarity: Positive; Accuracy: 1%; Output Type: Fixed; Power Supply Rejection Ratio (PSRR): 75dB; Supplier 1: Mouser; RoHS: Yes; Category: Voltage Regulators - Linear; Pricing 1: 1=0/80000, 10=0/66100, 50=0/66100, 100=0/54000, 1000=0/34200, 10000=0/32100 (USD); Mount: Surface Mount; Case/Package: SOT-223; Number of Pins: 4; Min Operating Temperature: 0°C; Max Operating Temperature: 125°C; Packaging: Tape and Reel; Max Output Current: 1.3A; Output Voltage: 1.8V; Package Quantity: 2500; Number of Regulators: 1; Power Dissipation: 12W; Min Output Voltage: 1.8V; Nominal Output Voltage: 1.8V; Output Voltage Accuracy: 1%; Series: -; Output Configuration: Positive; Length: 6.5mm; Width: 3.5mm; Height: 1.8mm; Radiation Hardening: No; Reach SVHC Compliant: Yes; Lead Free: Lead Free; RoHS Compliant: Yes; ComponentLink1URL: https://datasheet.ciiva.com/2041/cd00000544-2041936.pdf?src-supplier=Digi-Key; ComponentLink1Description: https://datasheet.ciiva.com/2041/cd00000544-2041936.pdf?src-supplier=Digi-Key; ComponentLink2URL: https://datasheet.ciiva.com/2041/cd00000544-2041937.pdf?src-supplier=Digi-Key; ComponentLink2Description: https://datasheet.ciiva.com/2041/cd00000544-2041937.pdf?src-supplier=Digi-Key; ComponentLink3URL: https://datasheet.ciiva.com/16369/cd00000544-16369927.pdf?src-supplier=Future+Electronics; ComponentLink3Description: https://datasheet.ciiva.com/16369/cd00000544-16369927.pdf?src-supplier=Future+Electronics; ComponentLink4URL: https://datasheet.ciiva.com/2041/cd00000544-2041935.pdf?src-supplier=Digi-Key; ComponentLink4Description: https://datasheet.ciiva.com/2041/cd00000544-2041935.pdf?src-supplier=Digi-Key; ComponentLink5URL: https://datasheet.ciiva.com/41440/001185790-da-01-en-ic-reg-ldo-1-8v-ld1117s18tr-sot-223-stm-41440741.pdf?src-supplier=Conrad; ComponentLink5Description: https://datasheet.ciiva.com/41440/001185790-da-01-en-ic-reg-ldo-1-8v-ld1117s18tr-sot-223-stm-41440741.pdf?src-supplier=Conrad; Supplier Part Number 1: 511-LD1117S18-TR
footprint SOT230P700X180-4N (SOT223, 4-Leads, Body 6/50x7/00mm (avg), Pitch 2/30mm, IPC Medium Density)
pins: 1 GND, 2 Out, 3 In, 4 Tab

## LD1117S33CTR
designator U?, comment Manufacturer Part Number: LD1117S33CTR  (hidden comment: IC REG LINEAR 3.3V 800MA SOT223)
Linear Voltage Regulator IC Positive Fixed 1 Output 3.3V 800mA SOT-223; Manufacturer: STMicroelectronics; Number of Terminals/Pins: 4; Package Body Material: Plastic; Number of Outputs: 1; Output Current: 950mA; Min Input Voltage: 5.3V; Dropout Voltage: 1.1V; Max Output Current: 1.3A; Max Input Voltage: 15V; Quiescent Current: 10mA; Accuracy: 1%; Power Supply Rejection Ratio (PSRR): 75dB; Max Power Dissipation: 12W; Input Bias Current: 5mA; Regulator Type: FIXED POSITIVE LDO REGULATOR; Time @ Peak Reflow Temperature-Max (s): 40s; Supplier 1: Digi-Key; RoHS: Yes; Category: Voltage Regulators - Linear; Mount: Surface Mount; Case/Package: SOT-223; Number of Pins: 4; Weight: 0.01lb; Contact Plating: Tin,Matte; Terminal Finish: Tin; Package Shape: Rectangular; Min Operating Temperature: -40°C; Max Operating Temperature: 125°C; Packaging: Tape and Reel; Output Voltage: 3.3V; Package Quantity: 2500; Number of Regulators: 1; Polarity: Positive; Output Voltage Accuracy: 1%; Output Type: Fixed; Series: -; Nominal Output Voltage: 3.3V; Max Supply Voltage: 15V; Min Supply Voltage: 3.3V; Min Output Voltage: 3.3V; Power Dissipation: 12W; Max Output Voltage: 3.3V; Termination: SMD/SMT; Terminal Form: Gull Wing; Terminal Position: DUAL; Moisture Sensitivity Level: 1; JESD-30 Code: R-PDSO-G4; Surface Mount: Yes; Peak Reflow Temperature (Cel): 260°C; Technology: BIPOLAR; Output Configuration: Positive; Length: 6.5mm; Width: 3.5mm; Height: 1.8mm; Radiation Hardening: No; Lead Free: Lead Free; RoHS Compliant: Yes; Reach SVHC Compliant: Yes; ComponentLink1URL: https://datasheet.ciiva.com/19480/1390223-19480586.pdf?src-supplier=Jameco; ComponentLink1Description: https://datasheet.ciiva.com/19480/1390223-19480586.pdf?src-supplier=Jameco; ComponentLink2URL: https://datasheet.ciiva.com/1511/1776449-1511572.pdf?src-supplier=Element14; ComponentLink2Description: https://datasheet.ciiva.com/1511/1776449-1511572.pdf?src-supplier=Element14; ComponentLink3URL: https://datasheet.ciiva.com/7992/1776449-7992620.pdf?src-supplier=Element14; ComponentLink3Description: https://datasheet.ciiva.com/7992/1776449-7992620.pdf?src-supplier=Element14; ComponentLink4URL: https://datasheet.ciiva.com/2041/cd00000544-2041933.pdf?src-supplier=Digi-Key; ComponentLink4Description: https://datasheet.ciiva.com/2041/cd00000544-2041933.pdf?src-supplier=Digi-Key; ComponentLink5URL: https://datasheet.ciiva.com/2041/cd00000544-2041932.pdf?src-supplier=Digi-Key; ComponentLink5Description: https://datasheet.ciiva.com/2041/cd00000544-2041932.pdf?src-supplier=Digi-Key; ComponentLink6URL: https://datasheet.ciiva.com/2041/cd00000544-2041934.pdf?src-supplier=Digi-Key; ComponentLink6Description: https://datasheet.ciiva.com/2041/cd00000544-2041934.pdf?src-supplier=Digi-Key; ComponentLink7URL: https://datasheet.ciiva.com/16392/cd00000544-16392069.pdf?src-supplier=Future+Electronics; ComponentLink7Description: https://datasheet.ciiva.com/16392/cd00000544-16392069.pdf?src-supplier=Future+Electronics; Supplier Part Number 1: 497-1241-1-ND
footprint SOT230P700X180-4N (SOT223, 4-Leads, Body 6/50x7/00mm (avg), Pitch 2/30mm, IPC Medium Density)
pins: 1 GND, 2 Out, 3 In, 4 Tab

## LM317D2T-TR
designator U?, comment IC REG LINEAR POS ADJ 1.5A D2PAK  Manufacturer Part Number: LM317D2T-TR
Linear Voltage Regulator IC Positive Adjustable 1 Output 1.2 V ~ 37 V 1.5A D2PAK; Manufacturer: STMicroelectronics; Number of Outputs: 1; Output Voltage: 37V; Max Input Voltage: 40V; Min Input Voltage: 3V; Reference Voltage: 1.3V; Min Output Voltage: 1.2V; Power Supply Rejection Ratio (PSRR): 80dB; Supplier 1: Digi-Key; RoHS: Yes; Category: Voltage Regulators - Linear; Stock 1: 273; Pricing 1: 1=1/71000, 10=1/52900, 25=1/45120, 100=1/19220, 250=1/11444, 500=0/98484 (USD); Mount: Surface Mount; Case/Package: TO-263; Number of Pins: 3; Weight: 7.1E-05oz; Contact Plating: Tin,Matte; Min Operating Temperature: 0°C; Max Operating Temperature: 125°C; Packaging: Tape and Reel; Output Current: 1.5A; Max Output Current: 1.5A; Package Quantity: 1; Polarity: Positive; Number of Regulators: 1; Max Output Voltage: 37V; Output Type: Adjustable; Series: LM317; Length: 10.24mm; Width: 9.35mm; Height: 4.57mm; Radiation Hardening: No; Reach SVHC Compliant: Yes; Lead Free: Lead Free; RoHS Compliant: Yes; ComponentLink1URL: https://datasheet.ciiva.com/15111/getdatasheetpartid-82653-15111476.pdf?src-supplier=Verical; ComponentLink1Description: https://datasheet.ciiva.com/15111/getdatasheetpartid-82653-15111476.pdf?src-supplier=Verical; ComponentLink2URL: https://datasheet.ciiva.com/1512/1815554-1512018.pdf?src-supplier=Element14; ComponentLink2Description: https://datasheet.ciiva.com/1512/1815554-1512018.pdf?src-supplier=Element14; ComponentLink3URL: https://datasheet.ciiva.com/22710/1815554-22710951.pdf?src-supplier=Element14; ComponentLink3Description: https://datasheet.ciiva.com/22710/1815554-22710951.pdf?src-supplier=Element14; ComponentLink4URL: https://datasheet.ciiva.com/2042/cd00000455-2042859.pdf?src-supplier=Digi-Key; ComponentLink4Description: https://datasheet.ciiva.com/2042/cd00000455-2042859.pdf?src-supplier=Digi-Key; ComponentLink5URL: https://datasheet.ciiva.com/2042/cd00000455-2042858.pdf?src-supplier=Digi-Key; ComponentLink5Description: https://datasheet.ciiva.com/2042/cd00000455-2042858.pdf?src-supplier=Digi-Key; ComponentLink6URL: https://datasheet.ciiva.com/2042/cd00000455-2042860.pdf?src-supplier=Digi-Key; ComponentLink6Description: https://datasheet.ciiva.com/2042/cd00000455-2042860.pdf?src-supplier=Digi-Key; ComponentLink7URL: https://datasheet.ciiva.com/16215/cd00000455-16215480.pdf?src-supplier=Future+Electronics; ComponentLink7Description: https://datasheet.ciiva.com/16215/cd00000455-16215480.pdf?src-supplier=Future+Electronics; ComponentLink8URL: https://datasheet.ciiva.com/48475/cd00000455-48475019.pdf?src-supplier=Avnet; ComponentLink8Description: https://datasheet.ciiva.com/48475/cd00000455-48475019.pdf?src-supplier=Avnet; Supplier Part Number 1: 497-1571-1-ND
footprint DPAK170P1438X470-3N (D2-PAK, 3-Pads, Body 7/45x8/51mm (max), IPC Medium Density)
pins: 1 Adj, 2 In, 3 Out

## LM317K STEEL/NOPB
designator U?, comment Manufacturer Part Number: LM317KSTEEL/NOPB  (hidden comment: IC REG LINEAR POS ADJ 1.5A TO3-2)
Manufacturer: TI National Semiconductor; Number of Outputs: 1; Min Input Voltage: 4.2V; Max Input Voltage: 40V; Output Voltage: 37V; Polarity: Positive; Min Output Voltage: 1.25V; Tolerance: 5%; Power Supply Rejection Ratio (PSRR): 65dB; Quiescent Current: 3.5mA; Dropout Voltage: 2.25V; Output Type: Adjustable; Supplier 1: Digi-Key; RoHS: Yes; Category: Uncategorized; Mount: Through Hole; Case/Package: TO-3; Number of Pins: 3; Output Current: 1.5A; Packaging: Tray; Max Output Current: 1.5A; Package Quantity: 50; Number of Regulators: 1; Min Current Limit: 1.5A; Max Output Voltage: 37V; Reference Voltage: 1.25V; Output Configuration: Positive; Series: -; Radiation Hardening: No; Reach SVHC Compliant: Yes; Lead Free: Lead Free; RoHS Compliant: Yes; ComponentLink1URL: https://datasheet.ciiva.com/14149/idlm117-lm317-data-e-14149824.pdf?src-supplier=Distrelec; ComponentLink1Description: https://datasheet.ciiva.com/14149/idlm117-lm317-data-e-14149824.pdf?src-supplier=Distrelec; ComponentLink2URL: https://datasheet.ciiva.com/4882/lm117-180061-4882203.pdf?src-supplier=Mouser; ComponentLink2Description: https://datasheet.ciiva.com/4882/lm117-180061-4882203.pdf?src-supplier=Mouser; ComponentLink3URL: https://datasheet.ciiva.com/6594/lm117-6594831.pdf?src-supplier=Digi-Key; ComponentLink3Description: https://datasheet.ciiva.com/6594/lm117-6594831.pdf?src-supplier=Digi-Key; Supplier Part Number 1: LM317KSTEEL/NOPB-ND
footprint TO-3
pins: 1 Adj, 2 In, 3 Out